# Altium schematic symbol library ESP32-C6-WROOM.SchLib: 21 symbols
Pins are listed as number, name and electrical type; pins without a type are passive.

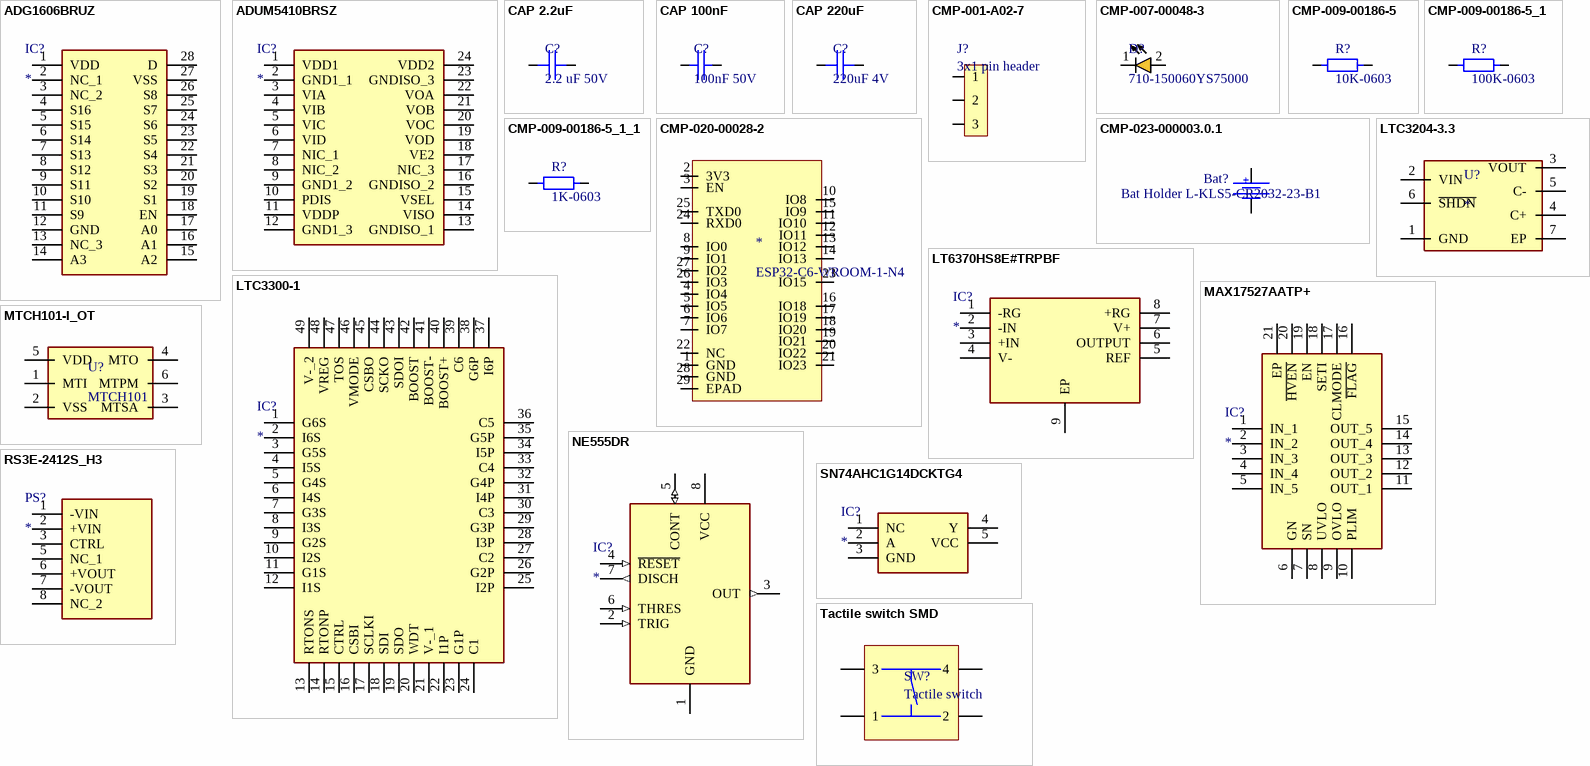
[diagram p0: symbols ADG1606BRUZ to Tactile switch SMD]

## ADG1606BRUZ
designator IC?
Integrated Circuit; Manufacturer_Name: Analog Devices; Manufacturer_Part_Number: ADG1606BRUZ; Datasheet Link: https://eu.mouser.com/datasheet/2/609/ADG1606_1607-1502923.pdf; Height: 1.2mm; Mouser Part Number: 584-ADG1606BRUZ; Mouser Price/Stock: https://www.mouser.co.uk/ProductDetail/Analog-Devices/ADG1606BRUZ?qs=BpaRKvA4VqEAmbrNnLSoQA%3D%3D; Arrow Part Number: ADG1606BRUZ; Arrow Price/Stock: https://www.arrow.com/en/products/adg1606bruz/analog-devices
footprint SOP65P640X120-28N
pins: 1 VDD, 2 NC_1, 3 NC_2, 4 S16, 5 S15, 6 S14, 7 S13, 8 S12, 9 S11, 10 S10, 11 S9, 12 GND, 13 NC_3, 14 A3, 15 A2, 16 A1, 17 A0, 18 EN, 19 S1, 20 S2, 21 S3, 22 S4, 23 S5, 24 S6, 25 S7, 26 S8, 27 VSS, 28 D

## ADUM5410BRSZ
designator IC?
Integrated Circuit; Manufacturer_Name: Analog Devices; Manufacturer_Part_Number: ADUM5410BRSZ; Datasheet Link: http://www.analog.com/media/en/technical-documentation/data-sheets/ADuM5410-5411-5412.pdf; Height: 2mm; Mouser Part Number: 584-ADUM5410BRSZ; Mouser Price/Stock: https://www.mouser.co.uk/ProductDetail/Analog-Devices/ADUM5410BRSZ?qs=xwQlLnDx56CdBaAm4pStkw%3D%3D; Arrow Part Number: ADUM5410BRSZ; Arrow Price/Stock: https://www.arrow.com/en/products/adum5410brsz/analog-devices
footprint SOP65P780X200-24N
pins: 1 VDD1, 2 GND1_1, 3 VIA, 4 VIB, 5 VIC, 6 VID, 7 NIC_1, 8 NIC_2, 9 GND1_2, 10 PDIS, 11 VDDP, 12 GND1_3, 13 GNDISO_1, 14 VISO, 15 VSEL, 16 GNDISO_2, 17 NIC_3, 18 VE2, 19 VOD, 20 VOC, 21 VOB, 22 VOA, 23 GNDISO_3, 24 VDD2

## CAP 2.2uF
designator C?, comment 2.2 uF 50V
2.2uF 10V 0603
footprint Capacitor 0603
pins: 1, 2

## CAP 100nF
designator C?, comment 100nF 50V
100nF 50V 0603
footprint Capacitor 0603
pins: 1, 2

## CAP 220uF
designator C?, comment 220uF 4V
220uF 4V 1206
footprint 1206 CAPC3216X190N
pins: 1, 2

## CMP-001-A02-7
designator J?, comment 3x1 pin header
2.54mm pitch
footprint Pin Header 1x3 TH Pitch 2.54mm (PinHeader 1x3 TH Pitch 2.54mm)
pins: 1, 2, 3

## CMP-007-00048-3
designator D?, comment 710-150060YS75000
SMD LED Yellow, 0603
footprint LEDC3216X110N
footprint DIOC2408X06N (Chip Diode, 2-Leads, Body 2,40x0,80mm, IPC Medium Density)
pins: 1 C, 2 A

## CMP-009-00186-5
designator R?, comment 10K-0603
Res 10K Ohm Thick Film 0603 1% 1/10W ±100ppm/°C Molded SMD SMD Paper T/R; Max Power Dissipation: 100mW; Features: Automotive AEC-Q200; Height: 0.022inch; Power Rating: 100mW; Military Standard: Not; Case Code (Imperial): 0603; Ratings: AEC-Q200; Depth: 0.8mm; Radiation Hardening: No; Width: 0.031inch; Case Code (Metric): 1608; Series: RMCF; Lead Free: Lead Free; Length: 1.55mm; Resistor Type: Thick Film; Temperature Coefficient: 100ppm/°C; Contact Plating: Tin,Matte; Construction: Rectangular; Number of Terminations: 2
footprint RESC1508X06N (Resistor, 0603, RMCF, 1,55x0,80mm, IPC Medium Density)
pins: 1, 2 1

## CMP-009-00186-5_1
designator R?, comment 100K-0603
Res 100K Ohm Thick Film 0603 1% 1/10W ±100ppm/°C Molded SMD SMD Paper T/R; Max Power Dissipation: 100mW; Features: Automotive AEC-Q200; Height: 0.022inch; Power Rating: 100mW; Military Standard: Not; Case Code (Imperial): 0603; Ratings: AEC-Q200; Depth: 0.8mm; Radiation Hardening: No; Width: 0.031inch; Case Code (Metric): 1608; Series: RMCF; Lead Free: Lead Free; Length: 1.55mm; Resistor Type: Thick Film; Temperature Coefficient: 100ppm/°C; Contact Plating: Tin,Matte; Construction: Rectangular; Number of Terminations: 2
footprint RESC1508X06N (Resistor, 0603, RMCF, 1,55x0,80mm, IPC Medium Density)
pins: 1, 2 1

## CMP-009-00186-5_1_1
designator R?, comment 1K-0603
Res 1K Ohm Thick Film 0603 1% 1/10W ±100ppm/°C Molded SMD SMD Paper T/R; Max Power Dissipation: 100mW; Features: Automotive AEC-Q200; Height: 0.022inch; Power Rating: 100mW; Military Standard: Not; Case Code (Imperial): 0603; Ratings: AEC-Q200; Depth: 0.8mm; Radiation Hardening: No; Width: 0.031inch; Case Code (Metric): 1608; Series: RMCF; Lead Free: Lead Free; Length: 1.55mm; Resistor Type: Thick Film; Temperature Coefficient: 100ppm/°C; Contact Plating: Tin,Matte; Construction: Rectangular; Number of Terminations: 2
footprint RESC1508X06N (Resistor, 0603, RMCF, 1,55x0,80mm, IPC Medium Density)
pins: 1, 2 1

## CMP-020-00028-2
designator *, comment ESP32-C6-WROOM-1-N4
Multiprotocol Modules ESP32-C6 module, Wi-Fi 6 in 2.4 GHz band, Bluetooth 5, Zigbee 3.0 and Thread. ESP32-WROOM Compatible
footprint ESP32-C6-WROOM-1-N4-Footprint-1
pins: 1 GND, 2 3V3, 3 EN, 4 IO4, 5 IO5, 6 IO6, 7 IO7, 8 IO0, 9 IO1, 10 IO8, 11 IO10, 12 IO11, 13 IO12, 14 IO13, 15 IO9, 16 IO18, 17 IO19, 18 IO20, 19 IO21, 20 IO22, 21 IO23, 22 NC, 23 IO15, 24 RXD0, 25 TXD0, 26 IO3, 27 IO2, 28 GND (power), 29 EPAD (power)

## CMP-023-000003.0.1
designator Bat?, comment Bat Holder L-KLS5-CR2032-23-B1
Bat Holder CR2032 SMD; Manufacturer: KLS Electronic; Artikkelnr Noca: N.A.; Pad Count: 2; ComponentLink2URL: N.A.; Component Class: Connectors; ComponentLink1Description: Datasheet; LatestRevisionDate: 2019-08-29; Source: pca10056.SCHLIB; Author: rsk; Part Number: Bat Holder L-KLS5-CR2032-23-B1; Component Type: Standard; Value: Bat Holder CR2032; Footprint Doc: CR2032_HOLDER; Published: 2019-08-28; PartId: 100500651; Design Item ID: Bat Holder L-KLS5-CR2032-23-B1; ComponentLink2Description: Supplier link; Note: Bat Holder CR2032; Part number IPS: N.A.; ComponentLink1URL: http://www.klsele.com/admin/product_upload/20151124103736KLS5-CR2032-23-B.pdf; HelpURL: http://www.klsele.com/products/connectors/Coin-Cell-Holders-Series/4685.html; Part number Norautron: N.A.; Pin Count: 2; Manufacturer Part Number: L-KLS5-CR2032-23-B1
footprint L-KLS5-CR2032-23-B1
footprint L-KLS5-CR2032-23-B1
pins: 1, 2
text: +

## LT6370HS8E#TRPBF
designator IC?
Integrated Circuit; Manufacturer_Name: Analog Devices; Manufacturer_Part_Number: LT6370HS8E#TRPBF; Datasheet Link: https://www.analog.com/media/en/technical-documentation/data-sheets/LT6370.pdf; Height: 1.752mm; Mouser Part Number: 584-LT6370HS8E#TRPBF; Mouser Price/Stock: https://www.mouser.co.uk/ProductDetail/Analog-Devices/LT6370HS8ETRPBF?qs=BJlw7L4Cy78RxPACMhkSIw%3D%3D
footprint SOIC127P599X175-9N
pins: 1 -RG, 2 -IN, 3 +IN, 4 V-, 5 REF, 6 OUTPUT, 7 V+, 8 +RG, 9 EP

## LTC3204-3.3
designator U?
footprint PCBComponent_1
pins: 1 GND, 2 VIN, 3 VOUT, 4 C+, 5 C-, 6 ~{SHDN}, 7 EP

## LTC3300-1
designator IC?
Integrated Circuit; Manufacturer_Name: Analog Devices; Manufacturer_Part_Number: LTC3300-1; Datasheet Link: http://cds.linear.com/docs/en/datasheet/33001fb.pdf; Height: 1.6mm
footprint QFP50P900X900X160-49N
pins: 1 G6S, 2 I6S, 3 G5S, 4 I5S, 5 G4S, 6 I4S, 7 G3S, 8 I3S, 9 G2S, 10 I2S, 11 G1S, 12 I1S, 13 RTONS, 14 RTONP, 15 CTRL, 16 CSBI, 17 SCLKI, 18 SDI, 19 SDO, 20 WDT, 21 V-_1 (power), 22 I1P, 23 G1P, 24 C1, 25 I2P, 26 G2P, 27 C2, 28 I3P, 29 G3P, 30 C3, 31 I4P, 32 G4P, 33 C4, 34 I5P, 35 G5P, 36 C5, 37 I6P, 38 G6P, 39 C6, 40 BOOST+, 41 BOOST-, 42 BOOST, 43 SDOI, 44 SCKO, 45 CSBO, 46 VMODE, 47 TOS, 48 VREG, 49 V-_2 (power)

## MAX17527AATP+
designator IC?
Integrated Circuit; Manufacturer_Name: Analog Devices; Manufacturer_Part_Number: MAX17527AATP+; Datasheet Link: https://g.componentsearchengine.com/Datasheets/0/17291911.pdf; Height: 0.8mm; Mouser Part Number: 700-MAX17527AATP+; Mouser Price/Stock: https://www.mouser.co.uk/ProductDetail/Analog-Devices-Maxim-Integrated/MAX17527AATP%2b?qs=amGC7iS6iy%2F5CvF1bQ9EqQ%3D%3D
footprint QFN65P500X500X80-21N
pins: 1 IN_1, 2 IN_2, 3 IN_3, 4 IN_4, 5 IN_5, 6 GN, 7 SN, 8 UVLO, 9 OVLO, 10 PLIM, 11 OUT_1, 12 OUT_2, 13 OUT_3, 14 OUT_4, 15 OUT_5, 16 ~{FLAG}, 17 CLMODE, 18 SETI, 19 EN, 20 ~{HVEN}, 21 EP

## MTCH101-I_OT
designator U?, comment MTCH101
Capasitive touch sensor; Manufacturer_Name: Microchip; Manufacturer_Part_Number: MTCH101-I/OT; Datasheet Link: https://componentsearchengine.com/Datasheets/2/MTCH101-I_OT.pdf; Height: 1.45mm; Mouser Part Number: 579-MTCH101-I/OT; Mouser Price/Stock: https://www.mouser.co.uk/ProductDetail/Microchip-Technology/MTCH101-I-OT?qs=VteoEApvSIB767sF5JiK8g%3D%3D; Arrow Part Number: MTCH101-I/OT; Arrow Price/Stock: https://www.arrow.com/en/products/mtch101-iot/microchip-technology?region=nac
footprint SOT95P270X145-6N
pins: 1 MTI, 2 VSS, 3 MTSA, 4 MTO, 5 VDD, 6 MTPM

## NE555DR
designator IC?
Integrated Circuit; Manufacturer_Name: Texas Instruments; Manufacturer_Part_Number: NE555DR; Datasheet Link: http://www.ti.com/lit/ds/symlink/ne555.pdf; Height: 1.75mm; Mouser Part Number: 595-NE555DR; Mouser Price/Stock: https://www.mouser.com/Search/Refine.aspx?Keyword=595-NE555DR; RS Part Number: 1218414; RS Price/Stock: http://uk.rs-online.com/web/p/products/1218414
footprint SOIC127P600X175-8N
pins: 1 GND (power), 2 TRIG (in), 3 OUT (out), 4 ~{RESET} (in), 5 CONT (io), 6 THRES (in), 7 DISCH (out), 8 VCC (power)

## RS3E-2412S_H3
designator PS?
Power Supply; Manufacturer_Name: RECOM Power; Manufacturer_Part_Number: RS3E-2412S/H3; Datasheet Link: https://recom-power.com/pdf/Econoline/RS3E.pdf; Height: 11.35mm; Mouser Part Number: 919-RS3E-2412S/H3; Mouser Price/Stock: https://www.mouser.co.uk/ProductDetail/RECOM-Power/RS3E-2412S-H3?qs=TuK3vfAjtkWjzZN4GaSyIA%3D%3D
footprint RS3E2412SH3
pins: 1 -VIN, 2 +VIN, 3 CTRL, 5 NC_1, 6 +VOUT, 7 -VOUT, 8 NC_2

## SN74AHC1G14DCKTG4
designator IC?
Integrated Circuit; Manufacturer_Name: Texas Instruments; Manufacturer_Part_Number: SN74AHC1G14DCKTG4; Datasheet Link: https://www.arrow.com/en/products/sn74ahc1g14dcktg4/texas-instruments; Height: 1.1mm; Mouser Part Number: 595-74AHC1G14DCKTG4; Mouser Price/Stock: https://www.mouser.co.uk/ProductDetail/Texas-Instruments/SN74AHC1G14DCKTG4?qs=E8lYj0tdJGEytRoR%252BZfsiA%3D%3D; Arrow Part Number: SN74AHC1G14DCKTG4; Arrow Price/Stock: https://www.arrow.com/en/products/sn74ahc1g14dcktg4/texas-instruments?region=nac
footprint SOT65P210X110-5N
pins: 1 NC, 2 A, 3 GND, 4 Y, 5 VCC

## Tactile switch SMD
designator SW?, comment Tactile switch
Tactile switch SMD Mount
pins: 1 "input", 2 "input", 3 "input", 4 "input"